# EAGLE library part AD7190BRUZ (library 0_analog-devices)
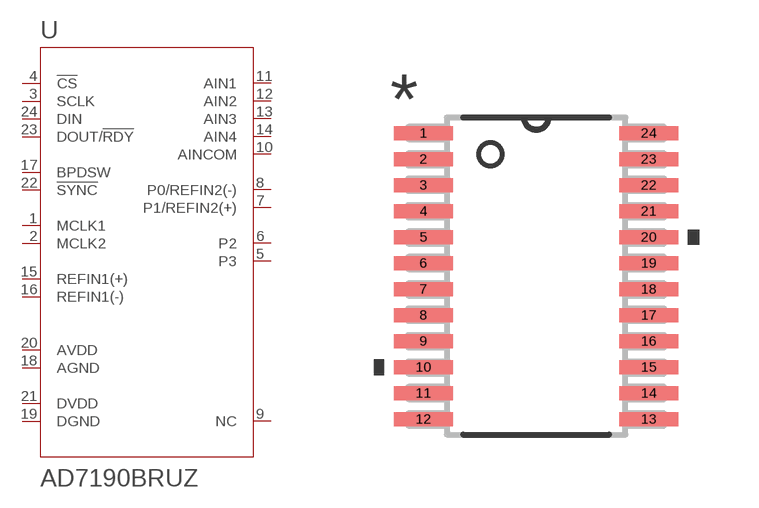
[diagram p1: symbol with the pads of RU_24; footprint RU_24]

Designator prefix U

## AD7190BRUZ (MANUFACTURER_PART_NUMBER: AD7190BRUZREEL; VENDOR: Vendor)  [RU_24]
1  MCLK1  pas
2  MCLK2  pas
3  SCLK  pas
4  !CS  pas
5  P3  pas
6  P2  pas
7  P1/REFIN2(+)  pas
8  P0/REFIN2(-)  pas
9  NC  pas
10  AINCOM  pas
11  AIN1  pas
12  AIN2  pas
13  AIN3  pas
14  AIN4  pas
15  REFIN1(+)  pas
16  REFIN1(-)  pas
17  BPDSW  pas
18  AGND  pas
19  DGND  pas
20  AVDD  pwr
21  DVDD  pwr
22  !SYNC  pas
23  DOUT/!RDY  pas
24  DIN  pas

## Footprint RU_24 (pad centres in mm)
smd 1.473 x 0.356: 1 -2.819,3.575; 2 -2.819,2.925; 3 -2.819,2.275; 4 -2.819,1.625; 5 -2.819,0.975; 6 -2.819,0.325; 7 -2.819,-0.325; 8 -2.819,-0.975; 9 -2.819,-1.625; 10 -2.819,-2.275; 11 -2.819,-2.925; 12 -2.819,-3.575; 13 2.819,-3.575; 14 2.819,-2.925; 15 2.819,-2.275; 16 2.819,-1.625; 17 2.819,-0.975; 18 2.819,-0.325; 19 2.819,0.325; 20 2.819,0.975; 21 2.819,1.625; 22 2.819,2.275; 23 2.819,2.925; 24 2.819,3.575